# EAGLE library part SAA7118 (library digistation)
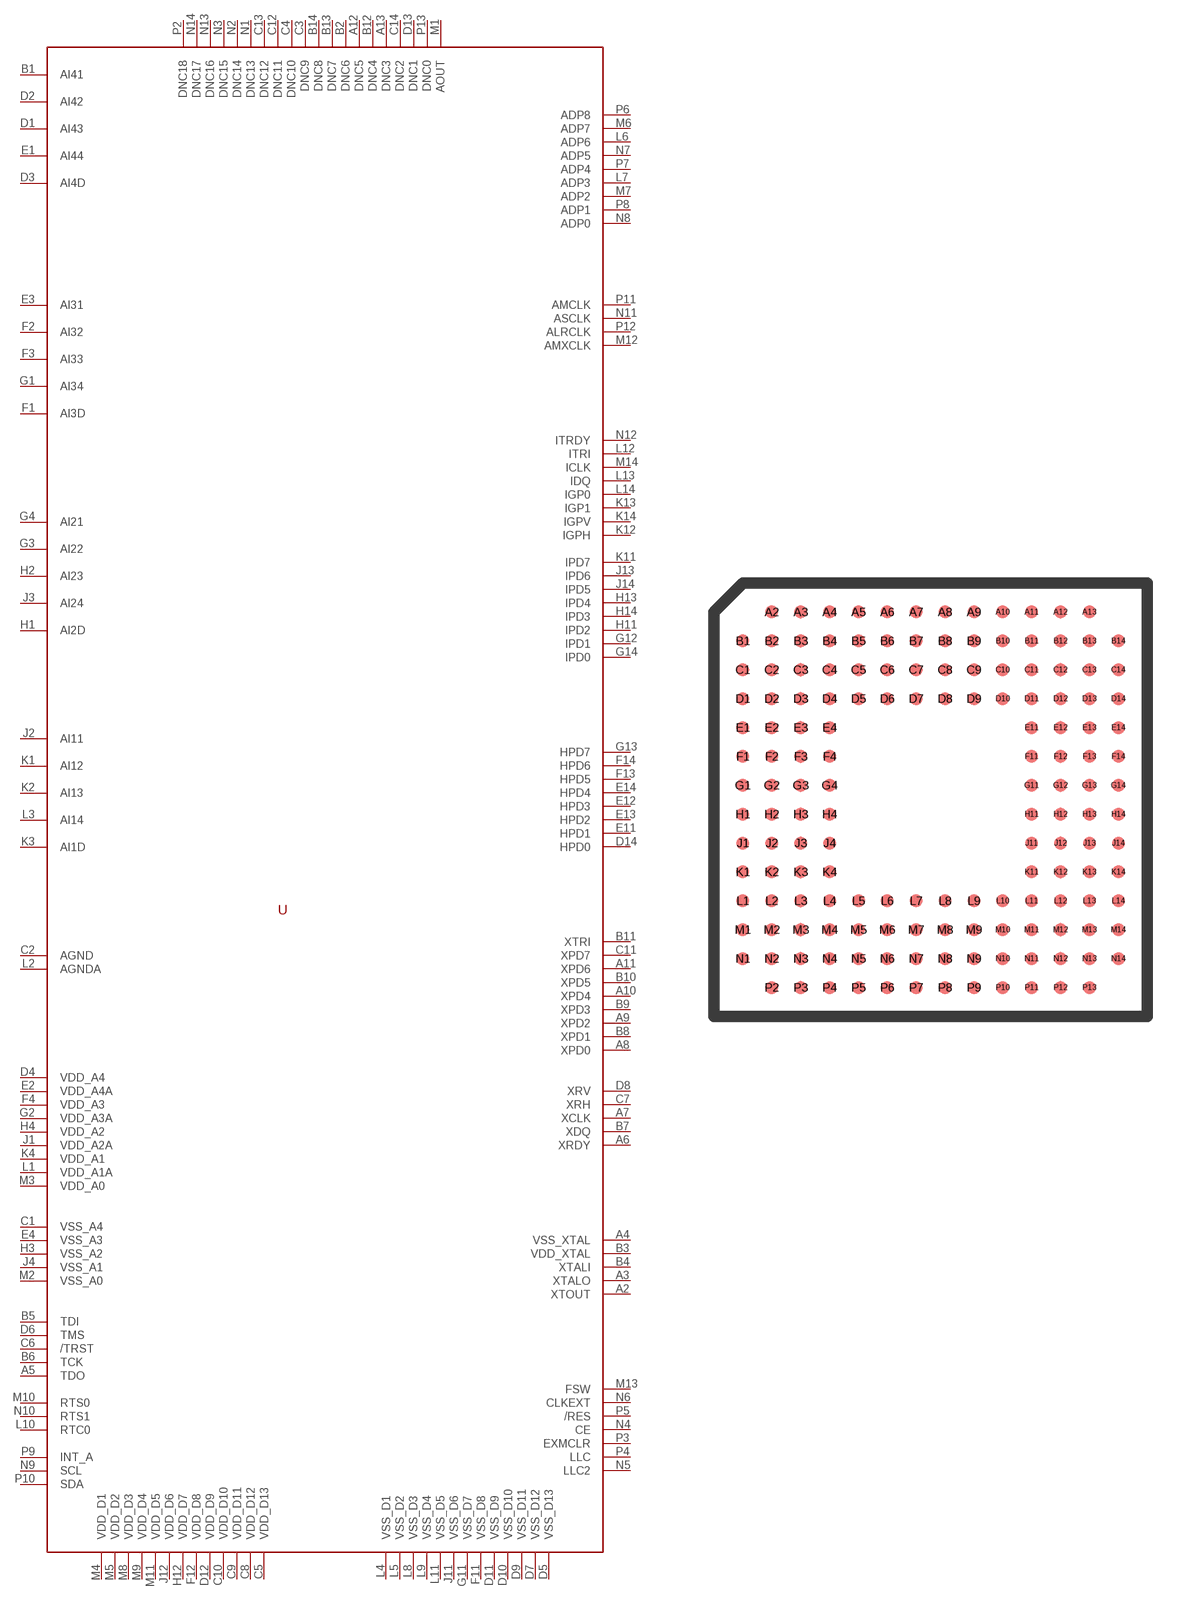
[diagram p0: symbol with the pads of LBGA156; footprint LBGA156]

Designator prefix -

## SAA7118  [LBGA156]
A2  XTOUT
A3  XTALO
A4  VSS_XTAL
A5  TDO
A6  XRDY
A7  XCLK
A8  XPD0
A9  XPD2
A10  XPD4
A11  XPD6
A12  DNC5
A13  DNC3
B1  AI41
B2  DNC6
B3  VDD_XTAL
B4  XTALI
B5  TDI
B6  TCK
B7  XDQ
B8  XPD1
B9  XPD3
B10  XPD5
B11  XTRI
B12  DNC4
B13  DNC7
B14  DNC8
C1  VSS_A4
C2  AGND
C3  DNC9
C4  DNC10
C5  VDD_D13
C6  /TRST
C7  XRH
C8  VDD_D12
C9  VDD_D11
C10  VDD_D10
C11  XPD7
C12  DNC11
C13  DNC12
C14  DNC2
D1  AI43
D2  AI42
D3  AI4D
D4  VDD_A4
D5  VSS_D13
D6  TMS
D7  VSS_D12
D8  XRV
D9  VSS_D11
D10  VSS_D10
D11  VSS_D9
D12  VDD_D9
D13  DNC1
D14  HPD0
E1  AI44
E2  VDD_A4A
E3  AI31
E4  VSS_A3
E11  HPD1
E12  HPD3
E13  HPD2
E14  HPD4
F1  AI3D
F2  AI32
F3  AI33
F4  VDD_A3
F11  VSS_D8
F12  VDD_D8
F13  HPD5
F14  HPD6
G1  AI34
G2  VDD_A3A
G3  AI22
G4  AI21
G11  VSS_D7
G12  IPD1
G13  HPD7
G14  IPD0
H1  AI2D
H2  AI23
H3  VSS_A2
H4  VDD_A2
H11  IPD2
H12  VDD_D7
H13  IPD4
H14  IPD3
J1  VDD_A2A
J2  AI11
J3  AI24
J4  VSS_A1
J11  VSS_D6
J12  VDD_D6
J13  IPD6
J14  IPD5
K1  AI12
K2  AI13
K3  AI1D
K4  VDD_A1
K11  IPD7
K12  IGPH
K13  IGP1
K14  IGPV
L1  VDD_A1A
L2  AGNDA
L3  AI14
L4  VSS_D1
L5  VSS_D2
L6  ADP6
L7  ADP3
L8  VSS_D3
L9  VSS_D4
L10  RTC0
L11  VSS_D5
L12  ITRI
L13  IDQ
L14  IGP0
M1  AOUT
M2  VSS_A0
M3  VDD_A0
M4  VDD_D1
M5  VDD_D2
M6  ADP7
M7  ADP2
M8  VDD_D3
M9  VDD_D4
M10  RTS0
M11  VDD_D5
M12  AMXCLK
M13  FSW
M14  ICLK
N1  DNC13
N2  DNC14
N3  DNC15
N4  CE
N5  LLC2
N6  CLKEXT
N7  ADP5
N8  ADP0
N9  SCL
N10  RTS1
N11  ASCLK
N12  ITRDY
N13  DNC16
N14  DNC17
P2  DNC18
P3  EXMCLR
P4  LLC
P5  /RES
P6  ADP8
P7  ADP4
P8  ADP1
P9  INT_A
P10  SDA
P11  AMCLK
P12  ALRCLK
P13  DNC0

## Footprint LBGA156 (pad centres in mm)
smd 0.45 x 0.45: A2 -5.5,6.5; A3 -4.5,6.5; A4 -3.5,6.5; A5 -2.5,6.5; A6 -1.5,6.5; A7 -0.5,6.5; A8 0.5,6.5; A9 1.5,6.5; A10 2.5,6.5; A11 3.5,6.5; A12 4.5,6.5; A13 5.5,6.5; B1 -6.5,5.5; B2 -5.5,5.5; B3 -4.5,5.5; B4 -3.5,5.5; B5 -2.5,5.5; B6 -1.5,5.5; B7 -0.5,5.5; B8 0.5,5.5; B9 1.5,5.5; B10 2.5,5.5; B11 3.5,5.5; B12 4.5,5.5; B13 5.5,5.5; B14 6.5,5.5; C1 -6.5,4.5; C2 -5.5,4.5; C3 -4.5,4.5; C4 -3.5,4.5; C5 -2.5,4.5; C6 -1.5,4.5; C7 -0.5,4.5; C8 0.5,4.5; C9 1.5,4.5; C10 2.5,4.5; C11 3.5,4.5; C12 4.5,4.5; C13 5.5,4.5; C14 6.5,4.5; D1 -6.5,3.5; D2 -5.5,3.5; D3 -4.5,3.5; D4 -3.5,3.5; D5 -2.5,3.5; D6 -1.5,3.5; D7 -0.5,3.5; D8 0.5,3.5; D9 1.5,3.5; D10 2.5,3.5; D11 3.5,3.5; D12 4.5,3.5; D13 5.5,3.5; D14 6.5,3.5; E1 -6.5,2.5; E2 -5.5,2.5; E3 -4.5,2.5; E4 -3.5,2.5; E11 3.5,2.5; E12 4.5,2.5; E13 5.5,2.5; E14 6.5,2.5; F1 -6.5,1.5; F2 -5.5,1.5; F3 -4.5,1.5; F4 -3.5,1.5; F11 3.5,1.5; F12 4.5,1.5; F13 5.5,1.5; F14 6.5,1.5; G1 -6.5,0.5; G2 -5.5,0.5; G3 -4.5,0.5; G4 -3.5,0.5; G11 3.5,0.5; G12 4.5,0.5; G13 5.5,0.5; G14 6.5,0.5; H1 -6.5,-0.5; H2 -5.5,-0.5; H3 -4.5,-0.5; H4 -3.5,-0.5; H11 3.5,-0.5; H12 4.5,-0.5; H13 5.5,-0.5; H14 6.5,-0.5; J1 -6.5,-1.5; J2 -5.5,-1.5; J3 -4.5,-1.5; J4 -3.5,-1.5; J11 3.5,-1.5; J12 4.5,-1.5; J13 5.5,-1.5; J14 6.5,-1.5; K1 -6.5,-2.5; K2 -5.5,-2.5; K3 -4.5,-2.5; K4 -3.5,-2.5; K11 3.5,-2.5; K12 4.5,-2.5; K13 5.5,-2.5; K14 6.5,-2.5; L1 -6.5,-3.5; L2 -5.5,-3.5; L3 -4.5,-3.5; L4 -3.5,-3.5; L5 -2.5,-3.5; L6 -1.5,-3.5; L7 -0.5,-3.5; L8 0.5,-3.5; L9 1.5,-3.5; L10 2.5,-3.5; L11 3.5,-3.5; L12 4.5,-3.5; L13 5.5,-3.5; L14 6.5,-3.5; M1 -6.5,-4.5; M2 -5.5,-4.5; M3 -4.5,-4.5; M4 -3.5,-4.5; M5 -2.5,-4.5; M6 -1.5,-4.5; M7 -0.5,-4.5; M8 0.5,-4.5; M9 1.5,-4.5; M10 2.5,-4.5; M11 3.5,-4.5; M12 4.5,-4.5; M13 5.5,-4.5; M14 6.5,-4.5; N1 -6.5,-5.5; N2 -5.5,-5.5; N3 -4.5,-5.5; N4 -3.5,-5.5; N5 -2.5,-5.5; N6 -1.5,-5.5; N7 -0.5,-5.5; N8 0.5,-5.5; N9 1.5,-5.5; N10 2.5,-5.5; N11 3.5,-5.5; N12 4.5,-5.5; N13 5.5,-5.5; N14 6.5,-5.5; P2 -5.5,-6.5; P3 -4.5,-6.5; P4 -3.5,-6.5; P5 -2.5,-6.5; P6 -1.5,-6.5; P7 -0.5,-6.5; P8 0.5,-6.5; P9 1.5,-6.5; P10 2.5,-6.5; P11 3.5,-6.5; P12 4.5,-6.5; P13 5.5,-6.5